# Altium footprint library 3.23-LCC封装.PcbLib: 82 footprints (part 3 of 6)
Each footprint in its own frame and in the unit in brackets; x right, y up, seen from the top. Pads: shape width x height; smd on the part's side, far side on the other; paste and mask are expansions set on the pad; w line width, h text height; cw(c..) or ccw(c..) is an arc to the next point about the centre after c.
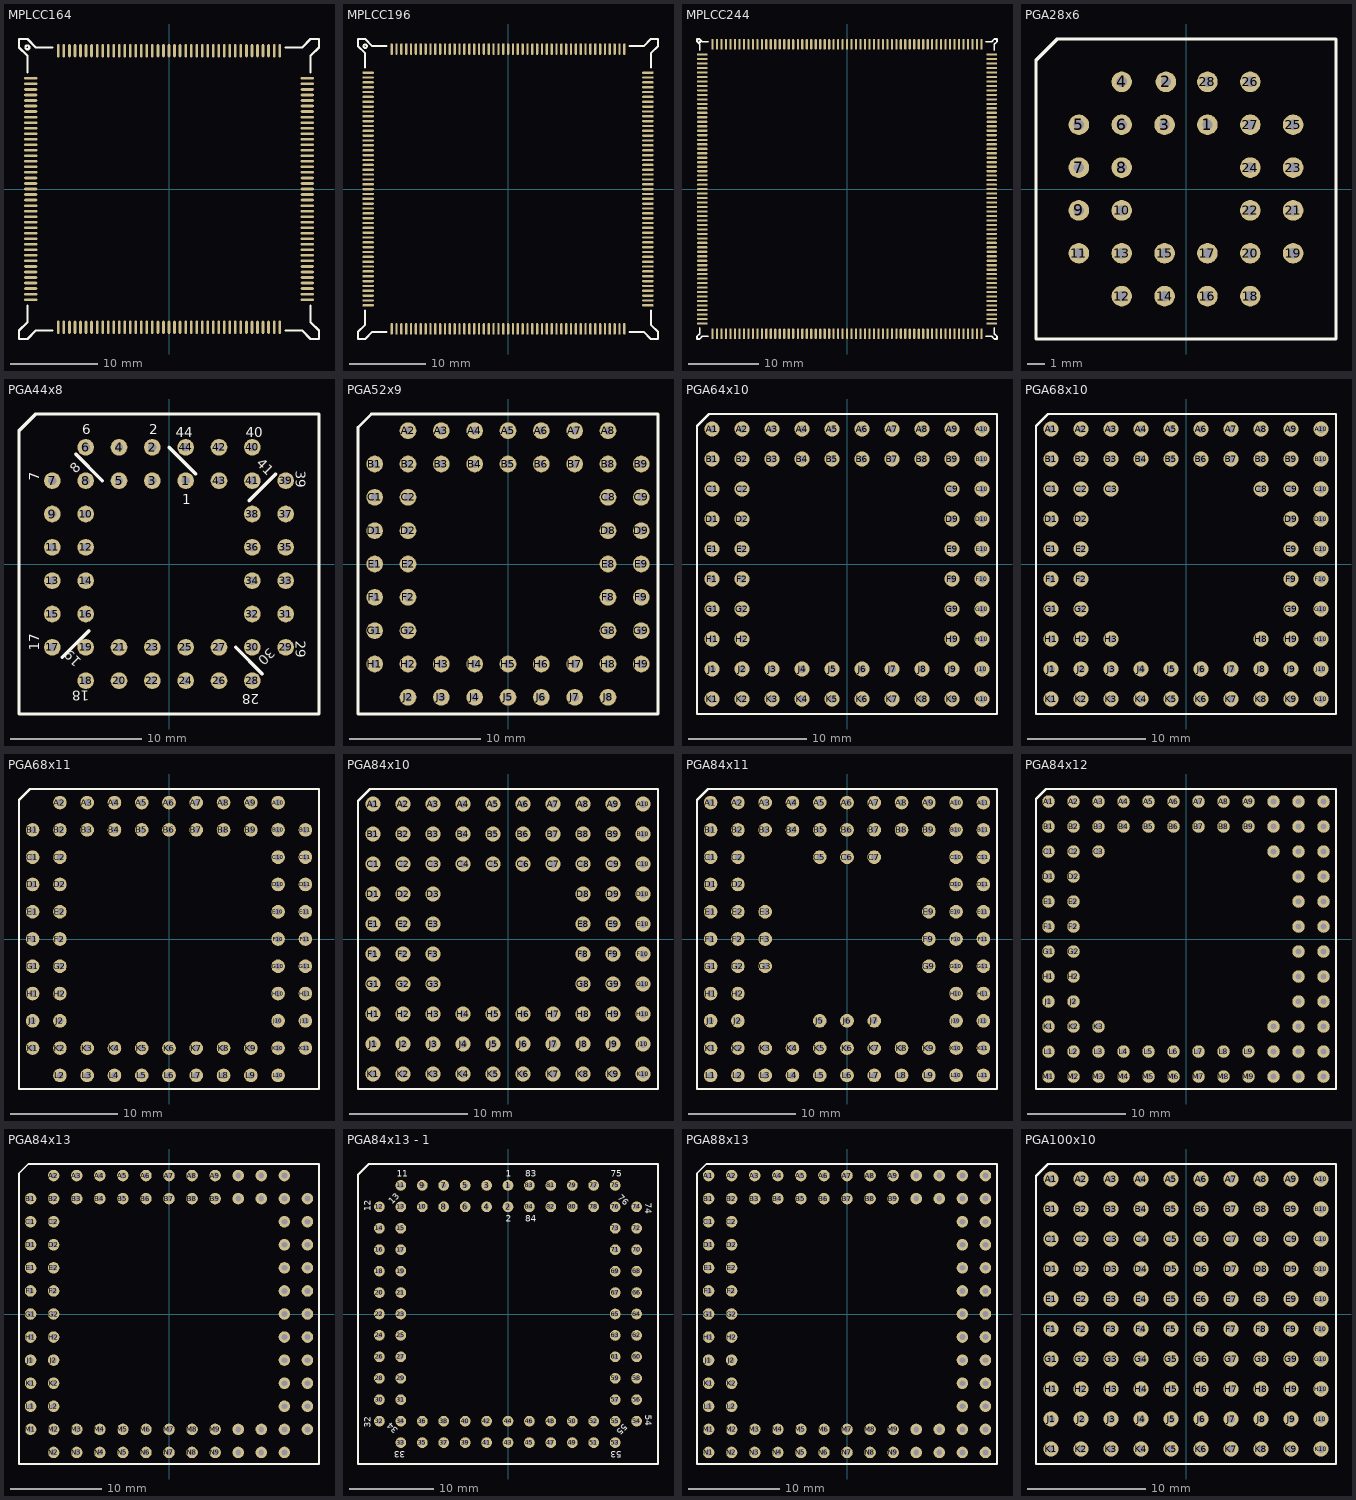
[diagram p2: the footprints below, top view; thin cyan lines are the x and y axes]

## MPLCC164 [mil]
pads (164):
  oval 12x60 smd: 1(0,625) 2(-25,625) 3(-50,625) 4(-75,625) 5(-100,625) 6(-125,625) 7(-150,625) 8(-175,625) 9(-200,625) 10(-225,625) 11(-250,625) 12(-275,625) 13(-300,625) 14(-325,625) 15(-350,625) 16(-375,625) 17(-400,625) 18(-425,625) 19(-450,625) 20(-475,625) 21(-500,625) 63(-500,-625) 64(-475,-625) 65(-450,-625) 66(-425,-625) 67(-400,-625) 68(-375,-625) 69(-350,-625) 70(-325,-625) 71(-300,-625) 72(-275,-625) 73(-250,-625) 74(-225,-625) 75(-200,-625) 76(-175,-625) 77(-150,-625) 78(-125,-625) 79(-100,-625) 80(-75,-625) 81(-50,-625) 82(-25,-625) 83(0,-625) 84(25,-625) 85(50,-625) 86(75,-625) 87(100,-625) 88(125,-625) 89(150,-625) 90(175,-625) 91(200,-625) 92(225,-625) 93(250,-625) 94(275,-625) 95(300,-625) 96(325,-625) 97(350,-625) 98(375,-625) 99(400,-625) 100(425,-625) 101(450,-625) 102(475,-625) 103(500,-625) 145(500,625) 146(475,625) 147(450,625) 148(425,625) 149(400,625) 150(375,625) 151(350,625) 152(325,625) 153(300,625) 154(275,625) 155(250,625) 156(225,625) 157(200,625) 158(175,625) 159(150,625) 160(125,625) 161(100,625) 162(75,625) 163(50,625) 164(25,625)
  oval 60x12 smd: 22(-625,500) 23(-625,475) 24(-625,450) 25(-625,425) 26(-625,400) 27(-625,375) 28(-625,350) 29(-625,325) 30(-625,300) 31(-625,275) 32(-625,250) 33(-625,225) 34(-625,200) 35(-625,175) 36(-625,150) 37(-625,125) 38(-625,100) 39(-625,75) 40(-625,50) 41(-625,25) 42(-625,0) 43(-625,-25) 44(-625,-50) 45(-625,-75) 46(-625,-100) 47(-625,-125) 48(-625,-150) 49(-625,-175) 50(-625,-200) 51(-625,-225) 52(-625,-250) 53(-625,-275) 54(-625,-300) 55(-625,-325) 56(-625,-350) 57(-625,-375) 58(-625,-400) 59(-625,-425) 60(-625,-450) 61(-625,-475) 62(-625,-500) 104(625,-500) 105(625,-475) 106(625,-450) 107(625,-425) 108(625,-400) 109(625,-375) 110(625,-350) 111(625,-325) 112(625,-300) 113(625,-275) 114(625,-250) 115(625,-225) 116(625,-200) 117(625,-175) 118(625,-150) 119(625,-125) 120(625,-100) 121(625,-75) 122(625,-50) 123(625,-25) 124(625,0) 125(625,25) 126(625,50) 127(625,75) 128(625,100) 129(625,125) 130(625,150) 131(625,175) 132(625,200) 133(625,225) 134(625,250) 135(625,275) 136(625,300) 137(625,325) 138(625,350) 139(625,375) 140(625,400) 141(625,425) 142(625,450) 143(625,475) 144(625,500)
Top Overlay:
  circle w10: c-640,640 r9
  lines w10: -640,-526 -640,-602 -678,-640 -678,-678 -640,-678 -602,-640 -526,-640 ; -640,526 -640,602 -678,640 -678,678 -640,678 -602,640 -526,640 ; 526,-640 602,-640 640,-678 678,-678 678,-640 640,-602 640,-526 ; 526,640 602,640 640,678 678,678 678,640 640,602 640,526

## MPLCC196 [mil]
pads (196):
  oval 12x60 smd: 1(0.5,722.5) 2(-24.5,722.5) 3(-49.5,722.5) 4(-74.5,722.5) 5(-99.5,722.5) 6(-124.5,722.5) 7(-149.5,722.5) 8(-174.5,722.5) 9(-199.5,722.5) 10(-225.5,722.5) 11(-250.5,722.5) 12(-275.5,722.5) 13(-300.5,722.5) 14(-325.5,722.5) 15(-350.5,722.5) 16(-375.5,722.5) 17(-400.5,722.5) 18(-425.5,722.5) 19(-450.5,722.5) 20(-475.5,722.5) 21(-500.5,722.5) 22(-525.5,722.5) 23(-550.5,722.5) 24(-575.5,722.5) 25(-600.5,722.5) 75(-600.5,-722.5) 76(-575.5,-722.5) 77(-550.5,-722.5) 78(-525.5,-722.5) 79(-500.5,-722.5) 80(-475.5,-722.5) 81(-450.5,-722.5) 82(-425.5,-722.5) 83(-400.5,-722.5) 84(-375.5,-722.5) 85(-350.5,-722.5) 86(-325.5,-722.5) 87(-300.5,-722.5) 88(-275.5,-722.5) 89(-250.5,-722.5) 90(-225.5,-722.5) 91(-199.5,-722.5) 92(-174.5,-722.5) 93(-149.5,-722.5) 94(-124.5,-722.5) 95(-99.5,-722.5) 96(-74.5,-722.5) 97(-49.5,-722.5) 98(-24.5,-722.5) 99(0.5,-722.5) 100(25.5,-722.5) 101(50.5,-722.5) 102(75.5,-722.5) 103(100.5,-722.5) 104(125.5,-722.5) 105(150.5,-722.5) 106(175.5,-722.5) 107(200.5,-722.5) 108(225.5,-722.5) 109(250.5,-722.5) 110(275.5,-722.5) 111(300.5,-722.5) 112(325.5,-722.5) 113(350.5,-722.5) 114(375.5,-722.5) 115(400.5,-722.5) 116(425.5,-722.5) 117(450.5,-722.5) 118(475.5,-722.5) 119(500.5,-722.5) 120(525.5,-722.5) 121(550.5,-722.5) 122(575.5,-722.5) 123(600.5,-722.5) 173(600.5,722.5) 174(575.5,722.5) 175(550.5,722.5) 176(525.5,722.5) 177(500.5,722.5) 178(475.5,722.5) 179(450.5,722.5) 180(425.5,722.5) 181(400.5,722.5) 182(375.5,722.5) 183(350.5,722.5) 184(325.5,722.5) 185(300.5,722.5) 186(275.5,722.5) 187(250.5,722.5) 188(225.5,722.5) 189(200.5,722.5) 190(175.5,722.5) 191(150.5,722.5) 192(125.5,722.5) 193(100.5,722.5) 194(75.5,722.5) 195(50.5,722.5) 196(25.5,722.5)
  oval 60x12 smd: 26(-722.5,600.5) 27(-722.5,575.5) 28(-722.5,550.5) 29(-722.5,525.5) 30(-722.5,500.5) 31(-722.5,475.5) 32(-722.5,450.5) 33(-722.5,425.5) 34(-722.5,400.5) 35(-722.5,375.5) 36(-722.5,350.5) 37(-722.5,325.5) 38(-722.5,300.5) 39(-722.5,275.5) 40(-722.5,250.5) 41(-722.5,225.5) 42(-722.5,199.5) 43(-722.5,174.5) 44(-722.5,149.5) 45(-722.5,124.5) 46(-722.5,99.5) 47(-722.5,74.5) 48(-722.5,49.5) 49(-722.5,24.5) 50(-722.5,-0.5) 51(-722.5,-25.5) 52(-722.5,-50.5) 53(-722.5,-75.5) 54(-722.5,-100.5) 55(-722.5,-125.5) 56(-722.5,-150.5) 57(-722.5,-175.5) 58(-722.5,-200.5) 59(-722.5,-225.5) 60(-722.5,-250.5) 61(-722.5,-275.5) 62(-722.5,-300.5) 63(-722.5,-325.5) 64(-722.5,-350.5) 65(-722.5,-375.5) 66(-722.5,-400.5) 67(-722.5,-425.5) 68(-722.5,-450.5) 69(-722.5,-475.5) 70(-722.5,-500.5) 71(-722.5,-525.5) 72(-722.5,-550.5) 73(-722.5,-575.5) 74(-722.5,-600.5) 124(722.5,-600.5) 125(722.5,-575.5) 126(722.5,-550.5) 127(722.5,-525.5) 128(722.5,-500.5) 129(722.5,-475.5) 130(722.5,-450.5) 131(722.5,-425.5) 132(722.5,-400.5) 133(722.5,-375.5) 134(722.5,-350.5) 135(722.5,-325.5) 136(722.5,-300.5) 137(722.5,-275.5) 138(722.5,-250.5) 139(722.5,-225.5) 140(722.5,-200.5) 141(722.5,-175.5) 142(722.5,-150.5) 143(722.5,-125.5) 144(722.5,-100.5) 145(722.5,-75.5) 146(722.5,-50.5) 147(722.5,-25.5) 148(722.5,-0.5) 149(722.5,24.5) 150(722.5,49.5) 151(722.5,74.5) 152(722.5,99.5) 153(722.5,124.5) 154(722.5,149.5) 155(722.5,174.5) 156(722.5,199.5) 157(722.5,225.5) 158(722.5,250.5) 159(722.5,275.5) 160(722.5,300.5) 161(722.5,325.5) 162(722.5,350.5) 163(722.5,375.5) 164(722.5,400.5) 165(722.5,425.5) 166(722.5,450.5) 167(722.5,475.5) 168(722.5,500.5) 169(722.5,525.5) 170(722.5,550.5) 171(722.5,575.5) 172(722.5,600.5)
Top Overlay:
  circle w10: c-737.5,737.5 r9
  lines w10: -737.5,-626.5 -737.5,-700.5 -774.5,-737.5 -774.5,-774.5 -737.5,-774.5 -700.5,-737.5 -626.5,-737.5 ; -737.5,626.5 -737.5,700.5 -774.5,737.5 -774.5,774.5 -737.5,774.5 -700.5,737.5 -626.5,737.5 ; 626.5,-737.5 700.5,-737.5 737.5,-774.5 774.5,-774.5 774.5,-737.5 737.5,-700.5 737.5,-626.5 ; 626.5,737.5 700.5,737.5 737.5,774.5 774.5,774.5 774.5,737.5 737.5,700.5 737.5,626.5

## MPLCC244 [mil]
pads (244):
  oval 12x60 smd: 1(0.5,807.5) 2(-24.5,807.5) 3(-49.5,807.5) 4(-74.5,807.5) 5(-99.5,807.5) 6(-124.5,807.5) 7(-149.5,807.5) 8(-174.5,807.5) 9(-199.5,807.5) 10(-224.5,807.5) 11(-249.5,807.5) 12(-274.5,807.5) 13(-300.5,807.5) 14(-325.5,807.5) 15(-350.5,807.5) 16(-375.5,807.5) 17(-400.5,807.5) 18(-425.5,807.5) 19(-450.5,807.5) 20(-475.5,807.5) 21(-500.5,807.5) 22(-525.5,807.5) 23(-550.5,807.5) 24(-575.5,807.5) 25(-600.5,807.5) 26(-625.5,807.5) 27(-650.5,807.5) 28(-675.5,807.5) 29(-700.5,807.5) 30(-725.5,807.5) 31(-750.5,807.5) 93(-750.5,-807.5) 94(-725.5,-807.5) 95(-700.5,-807.5) 96(-675.5,-807.5) 97(-650.5,-807.5) 98(-625.5,-807.5) 99(-600.5,-807.5) 100(-575.5,-807.5) 101(-550.5,-807.5) 102(-525.5,-807.5) 103(-500.5,-807.5) 104(-475.5,-807.5) 105(-450.5,-807.5) 106(-425.5,-807.5) 107(-400.5,-807.5) 108(-375.5,-807.5) 109(-350.5,-807.5) 110(-325.5,-807.5) 111(-300.5,-807.5) 112(-274.5,-807.5) 113(-249.5,-807.5) 114(-224.5,-807.5) 115(-199.5,-807.5) 116(-174.5,-807.5) 117(-149.5,-807.5) 118(-124.5,-807.5) 119(-99.5,-807.5) 120(-74.5,-807.5) 121(-49.5,-807.5) 122(-24.5,-807.5) 123(0.5,-807.5) 124(25.5,-807.5) 125(50.5,-807.5) 126(75.5,-807.5) 127(100.5,-807.5) 128(125.5,-807.5) 129(150.5,-807.5) 130(175.5,-807.5) 131(200.5,-807.5) 132(225.5,-807.5) 133(250.5,-807.5) 134(275.5,-807.5) 135(300.5,-807.5) 136(325.5,-807.5) 137(350.5,-807.5) 138(375.5,-807.5) 139(400.5,-807.5) 140(425.5,-807.5) 141(450.5,-807.5) 142(475.5,-807.5) 143(500.5,-807.5) 144(525.5,-807.5) 145(550.5,-807.5) 146(575.5,-807.5) 147(600.5,-807.5) 148(625.5,-807.5) 149(650.5,-807.5) 150(675.5,-807.5) 151(700.5,-807.5) 152(725.5,-807.5) 153(750.5,-807.5) 215(750.5,807.5) 216(725.5,807.5) 217(700.5,807.5) 218(675.5,807.5) 219(650.5,807.5) 220(625.5,807.5) 221(600.5,807.5) 222(575.5,807.5) 223(550.5,807.5) 224(525.5,807.5) 225(500.5,807.5) 226(475.5,807.5) 227(450.5,807.5) 228(425.5,807.5) 229(400.5,807.5) 230(375.5,807.5) 231(350.5,807.5) 232(325.5,807.5) 233(300.5,807.5) 234(275.5,807.5) 235(250.5,807.5) 236(225.5,807.5) 237(200.5,807.5) 238(175.5,807.5) 239(150.5,807.5) 240(125.5,807.5) 241(100.5,807.5) 242(75.5,807.5) 243(50.5,807.5) 244(25.5,807.5)
  oval 60x12 smd: 32(-807.5,750.5) 33(-807.5,725.5) 34(-807.5,700.5) 35(-807.5,675.5) 36(-807.5,650.5) 37(-807.5,625.5) 38(-807.5,600.5) 39(-807.5,575.5) 40(-807.5,550.5) 41(-807.5,525.5) 42(-807.5,500.5) 43(-807.5,475.5) 44(-807.5,450.5) 45(-807.5,425.5) 46(-807.5,400.5) 47(-807.5,375.5) 48(-807.5,350.5) 49(-807.5,325.5) 50(-807.5,300.5) 51(-807.5,274.5) 52(-807.5,249.5) 53(-807.5,224.5) 54(-807.5,199.5) 55(-807.5,174.5) 56(-807.5,149.5) 57(-807.5,124.5) 58(-807.5,99.5) 59(-807.5,74.5) 60(-807.5,49.5) 61(-807.5,24.5) 62(-807.5,-0.5) 63(-807.5,-25.5) 64(-807.5,-50.5) 65(-807.5,-75.5) 66(-807.5,-100.5) 67(-807.5,-125.5) 68(-807.5,-150.5) 69(-807.5,-175.5) 70(-807.5,-200.5) 71(-807.5,-225.5) 72(-807.5,-250.5) 73(-807.5,-275.5) 74(-807.5,-300.5) 75(-807.5,-325.5) 76(-807.5,-350.5) 77(-807.5,-375.5) 78(-807.5,-400.5) 79(-807.5,-425.5) 80(-807.5,-450.5) 81(-807.5,-475.5) 82(-807.5,-500.5) 83(-807.5,-525.5) 84(-807.5,-550.5) 85(-807.5,-575.5) 86(-807.5,-600.5) 87(-807.5,-625.5) 88(-807.5,-650.5) 89(-807.5,-675.5) 90(-807.5,-700.5) 91(-807.5,-725.5) 92(-807.5,-750.5) 154(807.5,-750.5) 155(807.5,-725.5) 156(807.5,-700.5) 157(807.5,-675.5) 158(807.5,-650.5) 159(807.5,-625.5) 160(807.5,-600.5) 161(807.5,-575.5) 162(807.5,-550.5) 163(807.5,-525.5) 164(807.5,-500.5) 165(807.5,-475.5) 166(807.5,-450.5) 167(807.5,-425.5) 168(807.5,-400.5) 169(807.5,-375.5) 170(807.5,-350.5) 171(807.5,-325.5) 172(807.5,-300.5) 173(807.5,-275.5) 174(807.5,-250.5) 175(807.5,-225.5) 176(807.5,-200.5) 177(807.5,-175.5) 178(807.5,-150.5) 179(807.5,-125.5) 180(807.5,-100.5) 181(807.5,-75.5) 182(807.5,-50.5) 183(807.5,-25.5) 184(807.5,-0.5) 185(807.5,24.5) 186(807.5,49.5) 187(807.5,74.5) 188(807.5,99.5) 189(807.5,124.5) 190(807.5,149.5) 191(807.5,174.5) 192(807.5,199.5) 193(807.5,224.5) 194(807.5,249.5) 195(807.5,274.5) 196(807.5,300.5) 197(807.5,325.5) 198(807.5,350.5) 199(807.5,375.5) 200(807.5,400.5) 201(807.5,425.5) 202(807.5,450.5) 203(807.5,475.5) 204(807.5,500.5) 205(807.5,525.5) 206(807.5,550.5) 207(807.5,575.5) 208(807.5,600.5) 209(807.5,625.5) 210(807.5,650.5) 211(807.5,675.5) 212(807.5,700.5) 213(807.5,725.5) 214(807.5,750.5)
Top Overlay:
  circle w10: c-822.5,822.5 r3
  lines w10: -822.5,-776.5 -822.5,-807.5 -837.5,-822.5 -837.5,-837.5 -822.5,-837.5 -807.5,-822.5 -776.5,-822.5 ; -822.5,776.5 -822.5,807.5 -837.5,822.5 -837.5,837.5 -822.5,837.5 -807.5,822.5 -776.5,822.5 ; 776.5,-822.5 807.5,-822.5 822.5,-837.5 837.5,-837.5 837.5,-822.5 822.5,-807.5 822.5,-776.5 ; 776.5,822.5 807.5,822.5 822.5,837.5 837.5,837.5 837.5,822.5 822.5,807.5 822.5,776.5

## PGA28x6 [mm] "28脚PLCC插座封装，共6排　像SL811HS"
pads (28):
  round 1.2 hole 0.6: 1(1.25,3.75) 2(-1.17,6.25) 3(-1.25,3.75) 4(-3.75,6.25) 5(-6.25,3.75) 6(-3.75,3.75) 7(-6.25,1.25) 8(-3.75,1.25) 9(-6.25,-1.25) 10(-3.75,-1.25) 11(-6.25,-3.75) 12(-3.75,-6.25) 13(-3.75,-3.75) 14(-1.25,-6.25) 15(-1.25,-3.75) 16(1.25,-6.25) 17(1.25,-3.75) 18(3.75,-6.25) 19(6.25,-3.75) 20(3.75,-3.75) 21(6.25,-1.25) 22(3.75,-1.25) 23(6.25,1.25) 24(3.75,1.25) 25(6.25,3.75) 26(3.75,6.25) 27(3.75,3.75) 28(1.25,6.25)
Top Overlay:
  lines w0.2: -8.75,-8.75 -8.75,7.5 -7.5,8.75 8.75,8.75 8.75,-8.75 -8.75,-8.75

## PGA44x8 [mil] "PLCC44脚插座，共8排"
pads (44):
  round 50 hole 25: 1(50,250) 2(-50,350) 3(-50,250) 4(-150,350) 5(-150,250) 6(-250,350) 7(-350,250) 8(-250,250) 9(-350,150) 10(-250,150) 11(-350,50) 12(-250,50) 13(-350,-50) 14(-250,-50) 15(-350,-150) 16(-250,-150) 17(-350,-250) 18(-250,-350) 19(-250,-250) 20(-150,-350) 21(-150,-250) 22(-50,-350) 23(-50,-250) 24(50,-350) 25(50,-250) 26(150,-350) 27(150,-250) 28(250,-350) 29(350,-250) 30(250,-250) 31(350,-150) 32(250,-150) 33(350,-50) 34(250,-50) 35(350,50) 36(250,50) 37(350,150) 38(250,150) 39(350,250) 40(250,350) 41(250,250) 42(150,350) 43(150,250) 44(50,350)
Top Overlay:
  lines w10: -320,-280 -240,-200 ; -280,330 -200,250 ; 0,350 80,270 ; 200,-250 280,-330 ; 240,190 320,270 ; -450,-450 450,-450 450,450 -400,450 -450,400 -450,-450
  text "30" at 300,-250 h30
  text "41" at 260,300 h30
  text "40" at 230,380 h30
  text "39" at 380,280 h30
  text "29" at 380,-230 h30
  text "28" at 270,-390 h30
  text "19" at -260,-290 h30
  text "18" at -240,-380 h30
  text "17" at -390,-260 h30
  text "8" at -280,270 h30
  text "7" at -390,250 h30
  text "6" at -260,390 h30
  text "2" at -60,390 h30
  text "1" at 40,180 h30
  text "44" at 20,380 h30

## PGA52x9 [mil]
pads (52):
  round 50 hole 25: A2(-300,400) A3(-200,400) A4(-100,400) A5(0,400) A6(100,400) A7(200,400) A8(300,400) B1(-400,300) B2(-300,300) B3(-200,300) B4(-100,300) B5(0,300) B6(100,300) B7(200,300) B8(300,300) B9(400,300) C1(-400,200) C2(-300,200) C8(300,200) C9(400,200) D1(-400,100) D2(-300,100) D8(300,100) D9(400,100) E1(-400,0) E2(-300,0) E8(300,0) E9(400,0) F1(-400,-100) F2(-300,-100) F8(300,-100) F9(400,-100) G1(-400,-200) G2(-300,-200) G8(300,-200) G9(400,-200) H1(-400,-300) H2(-300,-300) H3(-200,-300) H4(-100,-300) H5(0,-300) H6(100,-300) H7(200,-300) H8(300,-300) H9(400,-300) J2(-300,-400) J3(-200,-400) J4(-100,-400) J5(0,-400) J6(100,-400) J7(200,-400) J8(300,-400)
Top Overlay:
  lines w8: -450,-450 -450,410 -410,450 450,450 450,-450 -450,-450

## PGA64x10 [mil]
pads (64):
  round 50 hole 25: A1(-450,450) A2(-350,450) A3(-250,450) A4(-150,450) A5(-50,450) A6(50,450) A7(150,450) A8(250,450) A9(350,450) A10(450,450) B1(-450,350) B2(-350,350) B3(-250,350) B4(-150,350) B5(-50,350) B6(50,350) B7(150,350) B8(250,350) B9(350,350) B10(450,350) C1(-450,250) C2(-350,250) C9(350,250) C10(450,250) D1(-450,150) D2(-350,150) D9(350,150) D10(450,150) E1(-450,50) E2(-350,50) E9(350,50) E10(450,50) F1(-450,-50) F2(-350,-50) F9(350,-50) F10(450,-50) G1(-450,-150) G2(-350,-150) G9(350,-150) G10(450,-150) H1(-450,-250) H2(-350,-250) H9(350,-250) H10(450,-250) J1(-450,-350) J2(-350,-350) J3(-250,-350) J4(-150,-350) J5(-50,-350) J6(50,-350) J7(150,-350) J8(250,-350) J9(350,-350) J10(450,-350) K1(-450,-450) K2(-350,-450) K3(-250,-450) K4(-150,-450) K5(-50,-450) K6(50,-450) K7(150,-450) K8(250,-450) K9(350,-450) K10(450,-450)
Top Overlay:
  lines w8: -500,-500 -500,460 -460,500 500,500 500,-500 -500,-500

## PGA68x10 [mil]
pads (68):
  round 50 hole 25: A1(-450,450) A2(-350,450) A3(-250,450) A4(-150,450) A5(-50,450) A6(50,450) A7(150,450) A8(250,450) A9(350,450) A10(450,450) B1(-450,350) B2(-350,350) B3(-250,350) B4(-150,350) B5(-50,350) B6(50,350) B7(150,350) B8(250,350) B9(350,350) B10(450,350) C1(-450,250) C2(-350,250) C3(-250,250) C8(250,250) C9(350,250) C10(450,250) D1(-450,150) D2(-350,150) D9(350,150) D10(450,150) E1(-450,50) E2(-350,50) E9(350,50) E10(450,50) F1(-450,-50) F2(-350,-50) F9(350,-50) F10(450,-50) G1(-450,-150) G2(-350,-150) G9(350,-150) G10(450,-150) H1(-450,-250) H2(-350,-250) H3(-250,-250) H8(250,-250) H9(350,-250) H10(450,-250) J1(-450,-350) J2(-350,-350) J3(-250,-350) J4(-150,-350) J5(-50,-350) J6(50,-350) J7(150,-350) J8(250,-350) J9(350,-350) J10(450,-350) K1(-450,-450) K2(-350,-450) K3(-250,-450) K4(-150,-450) K5(-50,-450) K6(50,-450) K7(150,-450) K8(250,-450) K9(350,-450) K10(450,-450)
Top Overlay:
  lines w8: -500,-500 -500,460 -460,500 500,500 500,-500 -500,-500

## PGA68x11 [mil]
pads (68):
  round 50 hole 25: A2(-400,500) A3(-300,500) A4(-200,500) A5(-100,500) A6(0,500) A7(100,500) A8(200,500) A9(300,500) A10(400,500) B1(-500,400) B2(-400,400) B3(-300,400) B4(-200,400) B5(-100,400) B6(0,400) B7(100,400) B8(200,400) B9(300,400) B10(400,400) B11(500,400) C1(-500,300) C2(-400,300) C10(400,300) C11(500,300) D1(-500,200) D2(-400,200) D10(400,200) D11(500,200) E1(-500,100) E2(-400,100) E10(400,100) E11(500,100) F1(-500,0) F2(-400,0) F10(400,0) F11(500,0) G1(-500,-100) G2(-400,-100) G10(400,-100) G11(500,-100) H1(-500,-200) H2(-400,-200) H10(400,-200) H11(500,-200) J1(-500,-300) J2(-400,-300) J10(400,-300) J11(500,-300) K1(-500,-400) K2(-400,-400) K3(-300,-400) K4(-200,-400) K5(-100,-400) K6(0,-400) K7(100,-400) K8(200,-400) K9(300,-400) K10(400,-400) K11(500,-400) L2(-400,-500) L3(-300,-500) L4(-200,-500) L5(-100,-500) L6(0,-500) L7(100,-500) L8(200,-500) L9(300,-500) L10(400,-500)
Top Overlay:
  lines w8: -550,-550 -550,510 -510,550 550,550 550,-550 -550,-550

## PGA84x10 [mil]
pads (84):
  round 50 hole 25: A1(-450,450) A2(-350,450) A3(-250,450) A4(-150,450) A5(-50,450) A6(50,450) A7(150,450) A8(250,450) A9(350,450) A10(450,450) B1(-450,350) B2(-350,350) B3(-250,350) B4(-150,350) B5(-50,350) B6(50,350) B7(150,350) B8(250,350) B9(350,350) B10(450,350) C1(-450,250) C2(-350,250) C3(-250,250) C4(-150,250) C5(-50,250) C6(50,250) C7(150,250) C8(250,250) C9(350,250) C10(450,250) D1(-450,150) D2(-350,150) D3(-250,150) D8(250,150) D9(350,150) D10(450,150) E1(-450,50) E2(-350,50) E3(-250,50) E8(250,50) E9(350,50) E10(450,50) F1(-450,-50) F2(-350,-50) F3(-250,-50) F8(250,-50) F9(350,-50) F10(450,-50) G1(-450,-150) G2(-350,-150) G3(-250,-150) G8(250,-150) G9(350,-150) G10(450,-150) H1(-450,-250) H2(-350,-250) H3(-250,-250) H4(-150,-250) H5(-50,-250) H6(50,-250) H7(150,-250) H8(250,-250) H9(350,-250) H10(450,-250) J1(-450,-350) J2(-350,-350) J3(-250,-350) J4(-150,-350) J5(-50,-350) J6(50,-350) J7(150,-350) J8(250,-350) J9(350,-350) J10(450,-350) K1(-450,-450) K2(-350,-450) K3(-250,-450) K4(-150,-450) K5(-50,-450) K6(50,-450) K7(150,-450) K8(250,-450) K9(350,-450) K10(450,-450)
Top Overlay:
  lines w8: -500,-500 500,-500 500,500 -460,500 -500,460 -500,-500

## PGA84x11 [mil]
pads (84):
  round 50 hole 25: A1(-500,500) A2(-400,500) A3(-300,500) A4(-200,500) A5(-100,500) A6(0,500) A7(100,500) A8(200,500) A9(300,500) A10(400,500) A11(500,500) B1(-500,400) B2(-400,400) B3(-300,400) B4(-200,400) B5(-100,400) B6(0,400) B7(100,400) B8(200,400) B9(300,400) B10(400,400) B11(500,400) C1(-500,300) C2(-400,300) C5(-100,300) C6(0,300) C7(100,300) C10(400,300) C11(500,300) D1(-500,200) D2(-400,200) D10(400,200) D11(500,200) E1(-500,100) E2(-400,100) E3(-300,100) E9(300,100) E10(400,100) E11(500,100) F1(-500,0) F2(-400,0) F3(-300,0) F9(300,0) F10(400,0) F11(500,0) G1(-500,-100) G2(-400,-100) G3(-300,-100) G9(300,-100) G10(400,-100) G11(500,-100) H1(-500,-200) H2(-400,-200) H10(400,-200) H11(500,-200) J1(-500,-300) J2(-400,-300) J5(-100,-300) J6(0,-300) J7(100,-300) J10(400,-300) J11(500,-300) K1(-500,-400) K2(-400,-400) K3(-300,-400) K4(-200,-400) K5(-100,-400) K6(0,-400) K7(100,-400) K8(200,-400) K9(300,-400) K10(400,-400) K11(500,-400) L1(-500,-500) L2(-400,-500) L3(-300,-500) L4(-200,-500) L5(-100,-500) L6(0,-500) L7(100,-500) L8(200,-500) L9(300,-500) L10(400,-500) L11(500,-500)
Top Overlay:
  lines w8: -550,-550 550,-550 550,550 -510,550 -550,510 -550,-550

## PGA84x12 [mil]
pads (84):
  round 50 hole 25: A1(-550,550) A2(-450,550) A3(-350,550) A4(-250,550) A5(-150,550) A6(-50,550) A7(50,550) A8(150,550) A9(250,550) A10(350,550) A11(450,550) A12(550,550) B1(-550,450) B2(-450,450) B3(-350,450) B4(-250,450) B5(-150,450) B6(-50,450) B7(50,450) B8(150,450) B9(250,450) B10(350,450) B11(450,450) B12(550,450) C1(-550,350) C2(-450,350) C3(-350,350) C10(350,350) C11(450,350) C12(550,350) D1(-550,250) D2(-450,250) D11(450,250) D12(550,250) E1(-550,150) E2(-450,150) E11(450,150) E12(550,150) F1(-550,50) F2(-450,50) F11(450,50) F12(550,50) G1(-550,-50) G2(-450,-50) G11(450,-50) G12(550,-50) H1(-550,-150) H2(-450,-150) H11(450,-150) H12(550,-150) J1(-550,-250) J2(-450,-250) J11(450,-250) J12(550,-250) K1(-550,-350) K2(-450,-350) K3(-350,-350) K10(350,-350) K11(450,-350) K12(550,-350) L1(-550,-450) L2(-450,-450) L3(-350,-450) L4(-250,-450) L5(-150,-450) L6(-50,-450) L7(50,-450) L8(150,-450) L9(250,-450) L10(350,-450) L11(450,-450) L12(550,-450) M1(-550,-550) M2(-450,-550) M3(-350,-550) M4(-250,-550) M5(-150,-550) M6(-50,-550) M7(50,-550) M8(150,-550) M9(250,-550) M10(350,-550) M11(450,-550) M12(550,-550)
Top Overlay:
  lines w8: -600,-600 600,-600 600,600 -560,600 -600,560 -600,-600

## PGA84x13 [mil]
pads (84):
  round 50 hole 25: A2(-500,600) A3(-400,600) A4(-300,600) A5(-200,600) A6(-100,600) A7(0,600) A8(100,600) A9(200,600) A10(300,600) A11(400,600) A12(500,600) B1(-600,500) B2(-500,500) B3(-400,500) B4(-300,500) B5(-200,500) B6(-100,500) B7(0,500) B8(100,500) B9(200,500) B10(300,500) B11(400,500) B12(500,500) B13(600,500) C1(-600,400) C2(-500,400) C12(500,400) C13(600,400) D1(-600,300) D2(-500,300) D12(500,300) D13(600,300) E1(-600,200) E2(-500,200) E12(500,200) E13(600,200) F1(-600,100) F2(-500,100) F12(500,100) F13(600,100) G1(-600,0) G2(-500,0) G12(500,0) G13(600,0) H1(-600,-100) H2(-500,-100) H12(500,-100) H13(600,-100) J1(-600,-200) J2(-500,-200) J12(500,-200) J13(600,-200) K1(-600,-300) K2(-500,-300) K12(500,-300) K13(600,-300) L1(-600,-400) L2(-500,-400) L12(500,-400) L13(600,-400) M1(-600,-500) M2(-500,-500) M3(-400,-500) M4(-300,-500) M5(-200,-500) M6(-100,-500) M7(0,-500) M8(100,-500) M9(200,-500) M10(300,-500) M11(400,-500) M12(500,-500) M13(600,-500) N2(-500,-600) N3(-400,-600) N4(-300,-600) N5(-200,-600) N6(-100,-600) N7(0,-600) N8(100,-600) N9(200,-600) N10(300,-600) N11(400,-600) N12(500,-600)
Top Overlay:
  lines w8: -650,-650 650,-650 650,650 -610,650 -650,610 -650,-650

## PGA84x13 - 1 [mil] "PLCC84脚插座，共13排"
pads (84):
  round 50 hole 25: 1(0,600) 2(0,500) 3(-100,600) 4(-100,500) 5(-200,600) 6(-200,500) 7(-300,600) 8(-300,500) 9(-400,600) 10(-400,500) 11(-500,600) 12(-600,500) 13(-500,500) 14(-600,400) 15(-500,400) 16(-600,300) 17(-500,300) 18(-600,200) 19(-500,200) 20(-600,100) 21(-500,100) 22(-600,0) 23(-500,0) 24(-600,-100) 25(-500,-100) 26(-600,-200) 27(-500,-200) 28(-600,-300) 29(-500,-300) 30(-600,-400) 31(-500,-400) 32(-600,-500) 33(-500,-600) 34(-500,-500) 35(-400,-600) 36(-400,-500) 37(-300,-600) 38(-300,-500) 39(-200,-600) 40(-200,-500) 41(-100,-600) 42(-100,-500) 43(0,-600) 44(0,-500) 45(100,-600) 46(100,-500) 47(200,-600) 48(200,-500) 49(300,-600) 50(300,-500) 51(400,-600) 52(400,-500) 53(500,-600) 54(600,-500) 55(500,-500) 56(600,-400) 57(500,-400) 58(600,-300) 59(500,-300) 60(600,-200) 61(500,-200) 62(600,-100) 63(500,-100) 64(600,0) 65(500,0) 66(600,100) 67(500,100) 68(600,200) 69(500,200) 70(600,300) 71(500,300) 72(600,400) 73(500,400) 74(600,500) 75(500,600) 76(500,500) 77(400,600) 78(400,500) 79(300,600) 80(300,500) 81(200,600) 82(200,500) 83(100,600) 84(100,500)
Top Overlay:
  lines w10: -700,-700 -700,650 -650,700 700,700 700,-700 -700,-700
  text "76" at 510,540 h30
  text "74" at 640,520 h30
  text "55" at 540,-510 h30
  text "34" at -510,-540 h30
  text "33" at -480,-640 h30
  text "32" at -640,-530 h30
  text "83" at 80,640 h30
  text "84" at 80,430 h30
  text "1" at -10,640 h30
  text "2" at -10,430 h30
  text "11" at -520,640 h30
  text "12" at -640,480 h30
  text "13" at -540,510 h30
  text "53" at 530,-640 h30
  text "54" at 640,-470 h30
  text "75" at 480,640 h30

## PGA88x13 [mil]
pads (88):
  round 50 hole 25: A1(-600,600) A2(-500,600) A3(-400,600) A4(-300,600) A5(-200,600) A6(-100,600) A7(0,600) A8(100,600) A9(200,600) A10(300,600) A11(400,600) A12(500,600) A13(600,600) B1(-600,500) B2(-500,500) B3(-400,500) B4(-300,500) B5(-200,500) B6(-100,500) B7(0,500) B8(100,500) B9(200,500) B10(300,500) B11(400,500) B12(500,500) B13(600,500) C1(-600,400) C2(-500,400) C12(500,400) C13(600,400) D1(-600,300) D2(-500,300) D12(500,300) D13(600,300) E1(-600,200) E2(-500,200) E12(500,200) E13(600,200) F1(-600,100) F2(-500,100) F12(500,100) F13(600,100) G1(-600,0) G2(-500,0) G12(500,0) G13(600,0) H1(-600,-100) H2(-500,-100) H12(500,-100) H13(600,-100) J1(-600,-200) J2(-500,-200) J12(500,-200) J13(600,-200) K1(-600,-300) K2(-500,-300) K12(500,-300) K13(600,-300) L1(-600,-400) L2(-500,-400) L12(500,-400) L13(600,-400) M1(-600,-500) M2(-500,-500) M3(-400,-500) M4(-300,-500) M5(-200,-500) M6(-100,-500) M7(0,-500) M8(100,-500) M9(200,-500) M10(300,-500) M11(400,-500) M12(500,-500) M13(600,-500) N1(-600,-600) N2(-500,-600) N3(-400,-600) N4(-300,-600) N5(-200,-600) N6(-100,-600) N7(0,-600) N8(100,-600) N9(200,-600) N10(300,-600) N11(400,-600) N12(500,-600) N13(600,-600)
Top Overlay:
  lines w8: -650,-650 650,-650 650,650 -610,650 -650,610 -650,-650

## PGA100x10 [mil]
pads (100):
  round 50 hole 25: A1(-450,450) A2(-350,450) A3(-250,450) A4(-150,450) A5(-50,450) A6(50,450) A7(150,450) A8(250,450) A9(350,450) A10(450,450) B1(-450,350) B2(-350,350) B3(-250,350) B4(-150,350) B5(-50,350) B6(50,350) B7(150,350) B8(250,350) B9(350,350) B10(450,350) C1(-450,250) C2(-350,250) C3(-250,250) C4(-150,250) C5(-50,250) C6(50,250) C7(150,250) C8(250,250) C9(350,250) C10(450,250) D1(-450,150) D2(-350,150) D3(-250,150) D4(-150,150) D5(-50,150) D6(50,150) D7(150,150) D8(250,150) D9(350,150) D10(450,150) E1(-450,50) E2(-350,50) E3(-250,50) E4(-150,50) E5(-50,50) E6(50,50) E7(150,50) E8(250,50) E9(350,50) E10(450,50) F1(-450,-50) F2(-350,-50) F3(-250,-50) F4(-150,-50) F5(-50,-50) F6(50,-50) F7(150,-50) F8(250,-50) F9(350,-50) F10(450,-50) G1(-450,-150) G2(-350,-150) G3(-250,-150) G4(-150,-150) G5(-50,-150) G6(50,-150) G7(150,-150) G8(250,-150) G9(350,-150) G10(450,-150) H1(-450,-250) H2(-350,-250) H3(-250,-250) H4(-150,-250) H5(-50,-250) H6(50,-250) H7(150,-250) H8(250,-250) H9(350,-250) H10(450,-250) J1(-450,-350) J2(-350,-350) J3(-250,-350) J4(-150,-350) J5(-50,-350) J6(50,-350) J7(150,-350) J8(250,-350) J9(350,-350) J10(450,-350) K1(-450,-450) K2(-350,-450) K3(-250,-450) K4(-150,-450) K5(-50,-450) K6(50,-450) K7(150,-450) K8(250,-450) K9(350,-450) K10(450,-450)
Top Overlay:
  lines w8: -500,-500 500,-500 500,500 -460,500 -500,460 -500,-500